# Altium schematic symbol library HR911105A.Schlib: 1 symbol
Pins are listed as number, name and electrical type; pins without a type are passive.

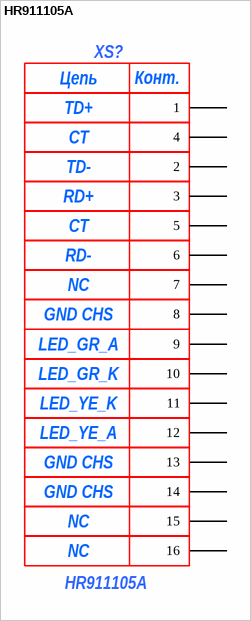
[diagram p0: symbol HR911105A]

## HR911105A
designator XS?
Разъем RJ-45 с трансформаторами и светодиодами
pins: 1, 2, 3, 4, 5, 6, 7, 8, 9, 10, 11, 12, 13, 14, 15, 16
text: Цепь; Конт.; TD+; CT; TD-; RD+; RD-; NC; GND CHS; LED_GR_A; LED_GR_K; LED_YE_K; LED_YE_A